# EAGLE library part STELLARIS-LAUNCHPAD-* (library ti)
Stellaris Launchpad LM4F120 using all header pins to connect to XL booster packs.
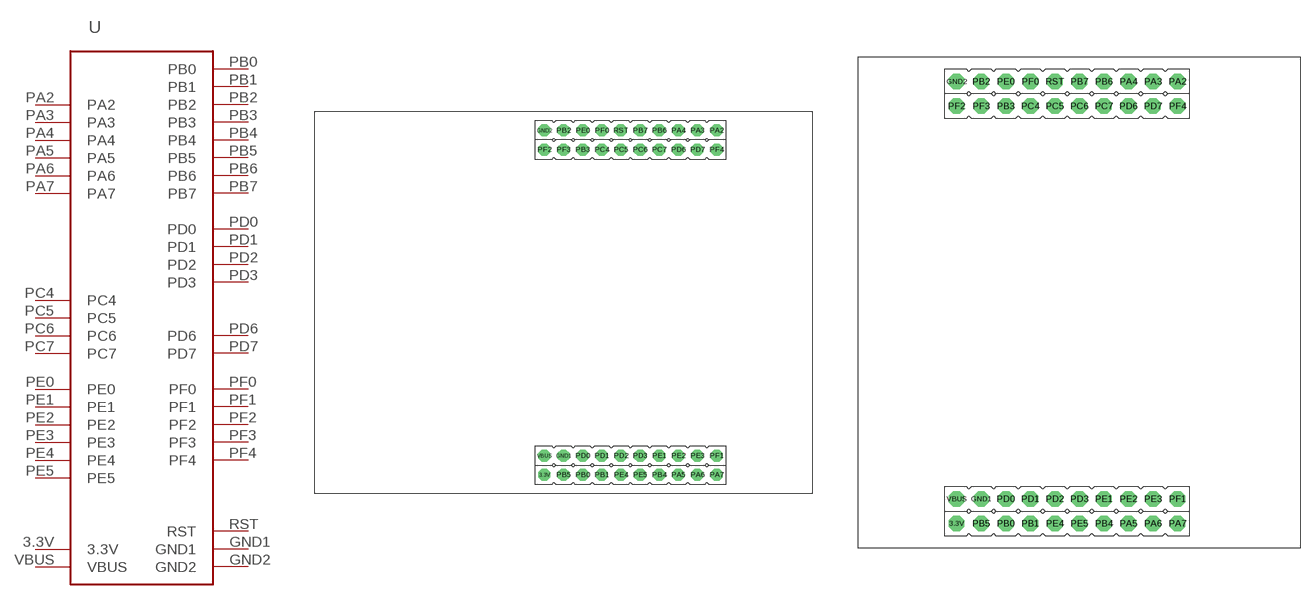
[diagram p3: symbol with the pads of LAUNCHPAD-XL; footprints LAUNCHPAD-XL, LAUNCHPAD-L]

Designator prefix -

## STELLARIS-LAUNCHPAD-NORMAL  [LAUNCHPAD-XL]
3.3V  3.3V  pwr
GND1  GND1
GND2  GND2  pwr
PA2  PA2
PA3  PA3
PA4  PA4
PA5  PA5
PA6  PA6
PA7  PA7
PB0  PB0
PB1  PB1
PB2  PB2
PB3  PB3
PB4  PB4
PB5  PB5
PB6  PB6
PB7  PB7
PC4  PC4
PC5  PC5
PC6  PC6
PC7  PC7
PD0  PD0
PD1  PD1
PD2  PD2
PD3  PD3
PD6  PD6
PD7  PD7
PE0  PE0
PE1  PE1
PE2  PE2
PE3  PE3
PE4  PE4
PE5  PE5
PF0  PF0
PF1  PF1
PF2  PF2
PF3  PF3
PF4  PF4
RST  RST  pwr
VBUS  VBUS  pwr

## STELLARIS-LAUNCHPAD-HALF  [LAUNCHPAD-L]
Pads as for LAUNCHPAD-XL

## Footprint LAUNCHPAD-XL (pad centres in mm)
Stellaris Launchpad LM4F120 using all header pins to connect to XL booster packs.
drill 0.914 pad 1.6 octagon: 3.3V 30.48,2.54; GND1 33.02,5.08; GND2 30.48,48.26; PA2 53.34,48.26; PA3 50.8,48.26; PA4 48.26,48.26; PA5 48.26,2.54; PA6 50.8,2.54; PA7 53.34,2.54; PB0 35.56,2.54; PB1 38.1,2.54; PB2 33.02,48.26; PB3 35.56,45.72; PB4 45.72,2.54; PB5 33.02,2.54; PB6 45.72,48.26; PB7 43.18,48.26; PC4 38.1,45.72; PC5 40.64,45.72; PC6 43.18,45.72; PC7 45.72,45.72; PD0 35.56,5.08; PD1 38.1,5.08; PD2 40.64,5.08; PD3 43.18,5.08; PD6 48.26,45.72; PD7 50.8,45.72; PE0 35.56,48.26; PE1 45.72,5.08; PE2 48.26,5.08; PE3 50.8,5.08; PE4 40.64,2.54; PE5 43.18,2.54; PF0 38.1,48.26; PF1 53.34,5.08; PF2 30.48,45.72; PF3 33.02,45.72; PF4 53.34,45.72; RST 40.64,48.26; VBUS 30.48,5.08

## Footprint LAUNCHPAD-L (pad centres in mm)
Stellaris Launchpad LM4F120 using all header pins to connect to XL booster packs.
drill 0.914 pad 1.6 octagon: 3.3V 10.16,2.54; GND1 12.7,5.08; GND2 10.16,48.26; PA2 33.02,48.26; PA3 30.48,48.26; PA4 27.94,48.26; PA5 27.94,2.54; PA6 30.48,2.54; PA7 33.02,2.54; PB0 15.24,2.54; PB1 17.78,2.54; PB2 12.7,48.26; PB3 15.24,45.72; PB4 25.4,2.54; PB5 12.7,2.54; PB6 25.4,48.26; PB7 22.86,48.26; PC4 17.78,45.72; PC5 20.32,45.72; PC6 22.86,45.72; PC7 25.4,45.72; PD0 15.24,5.08; PD1 17.78,5.08; PD2 20.32,5.08; PD3 22.86,5.08; PD6 27.94,45.72; PD7 30.48,45.72; PE0 15.24,48.26; PE1 25.4,5.08; PE2 27.94,5.08; PE3 30.48,5.08; PE4 20.32,2.54; PE5 22.86,2.54; PF0 17.78,48.26; PF1 33.02,5.08; PF2 10.16,45.72; PF3 12.7,45.72; PF4 33.02,45.72; RST 20.32,48.26; VBUS 10.16,5.08